# Altium footprint library MGJ6T12.PcbLib: 1 footprints
Each footprint in its own frame and in the unit in brackets; x right, y up, seen from the top. Pads: shape width x height; smd on the part's side, far side on the other; paste and mask are expansions set on the pad; w line width, h text height; cw(c..) or ccw(c..) is an arc to the next point about the centre after c.
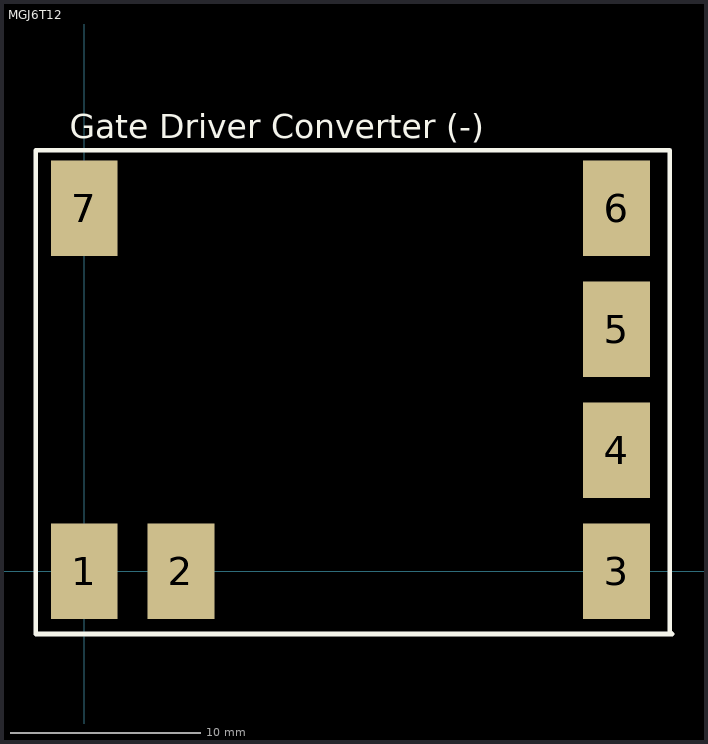
[diagram p0: the footprint, top view; thin cyan lines are the x and y axes]

## MGJ6T12 [mm]
pads (7):
  rect 3.5x5 smd: 1(0,0) 2(5.08,0) 3(27.94,0) 4(27.94,6.35) 5(27.94,12.7) 6(27.94,19.05) 7(0,19.05)
Top Overlay:
  lines w0.254: -2.54,-3.302 30.861,-3.302 30.734,-3.175 30.734,22.098 -2.54,22.098 -2.54,-3.302
  text "Gate Driver Converter (-)" at -0.762,22.733 h1.27